# EAGLE library part CY4XX7BLE (library IOTExpert)
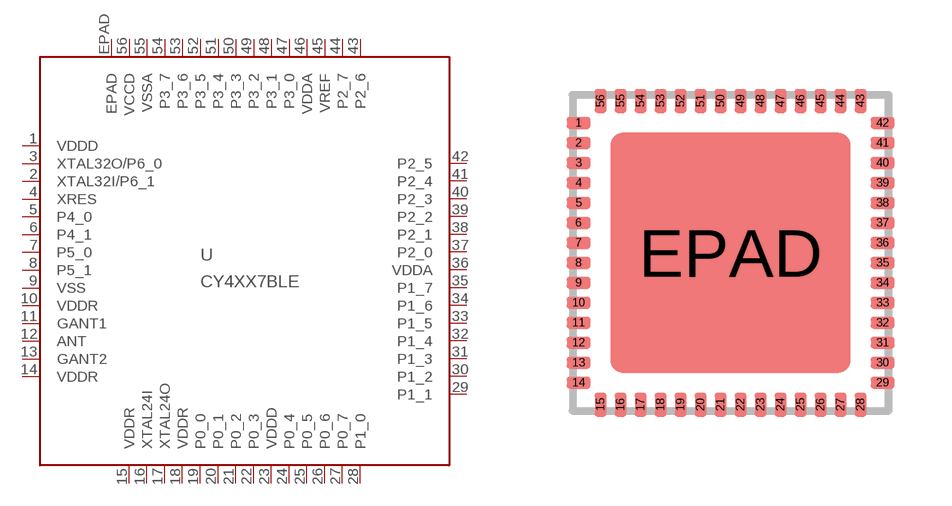
[diagram p4: symbol with the pads of QFN56; footprint QFN56]

Designator prefix -

## CY4XX7BLE  [QFN56]
1  VDDD
2  XTAL32I/P6_1
3  XTAL32O/P6_0
4  XRES
5  P4_0
6  P4_1
7  P5_0  pwr
8  P5_1
9  VSS
10  VDDR
11  GANT1  pwr
12  ANT
13  GANT2
14  VDDR
15  VDDR
16  XTAL24I
17  XTAL24O
18  VDDR
19  P0_0
20  P0_1
21  P0_2
22  P0_3  pwr
23  VDDD
24  P0_4
25  P0_5
26  P0_6
27  P0_7
28  P1_0
29  P1_1
30  P1_2
31  P1_3
32  P1_4
33  P1_5
34  P1_6  in
35  P1_7
36  VDDA
37  P2_0
38  P2_1  pwr
39  P2_2
40  P2_3
41  P2_4
42  P2_5
43  P2_6
44  P2_7
45  VREF
46  VDDA
47  P3_0
48  P3_1
49  P3_2  pwr
50  P3_3
51  P3_4
52  P3_5
53  P3_6
54  P3_7
55  VSSA
56  VCCD
EPAD  EPAD

## Footprint QFN56 (pad centres in mm)
smd 0.6 x 0.3: 1 -3.8,3.25; 2 -3.8,2.75; 3 -3.8,2.25; 4 -3.8,1.75; 5 -3.8,1.25; 6 -3.8,0.75; 7 -3.8,0.25; 8 -3.8,-0.25; 9 -3.8,-0.75; 10 -3.8,-1.25; 11 -3.8,-1.75; 12 -3.8,-2.25; 13 -3.8,-2.75; 14 -3.8,-3.25; 29 3.8,-3.25; 30 3.8,-2.75; 31 3.8,-2.25; 32 3.8,-1.75; 33 3.8,-1.25; 34 3.8,-0.75; 35 3.8,-0.25; 36 3.8,0.25; 37 3.8,0.75; 38 3.8,1.25; 39 3.8,1.75; 40 3.8,2.25; 41 3.8,2.75; 42 3.8,3.25
smd 0.3 x 0.6: 15 -3.25,-3.8; 16 -2.75,-3.8; 17 -2.25,-3.8; 18 -1.75,-3.8; 19 -1.25,-3.8; 20 -0.75,-3.8; 21 -0.25,-3.8; 22 0.25,-3.8; 23 0.75,-3.8; 24 1.25,-3.8; 25 1.75,-3.8; 26 2.25,-3.8; 27 2.75,-3.8; 28 3.25,-3.8; 43 3.25,3.8; 44 2.75,3.8; 45 2.25,3.8; 46 1.75,3.8; 47 1.25,3.8; 48 0.75,3.8; 49 0.25,3.8; 50 -0.25,3.8; 51 -0.75,3.8; 52 -1.25,3.8; 53 -1.75,3.8; 54 -2.25,3.8; 55 -2.75,3.8; 56 -3.25,3.8
smd 6 x 6: EPAD 0,0